# Altium integrated library NSC OtherParts.IntLib: 191 symbols (part 6 of 6)
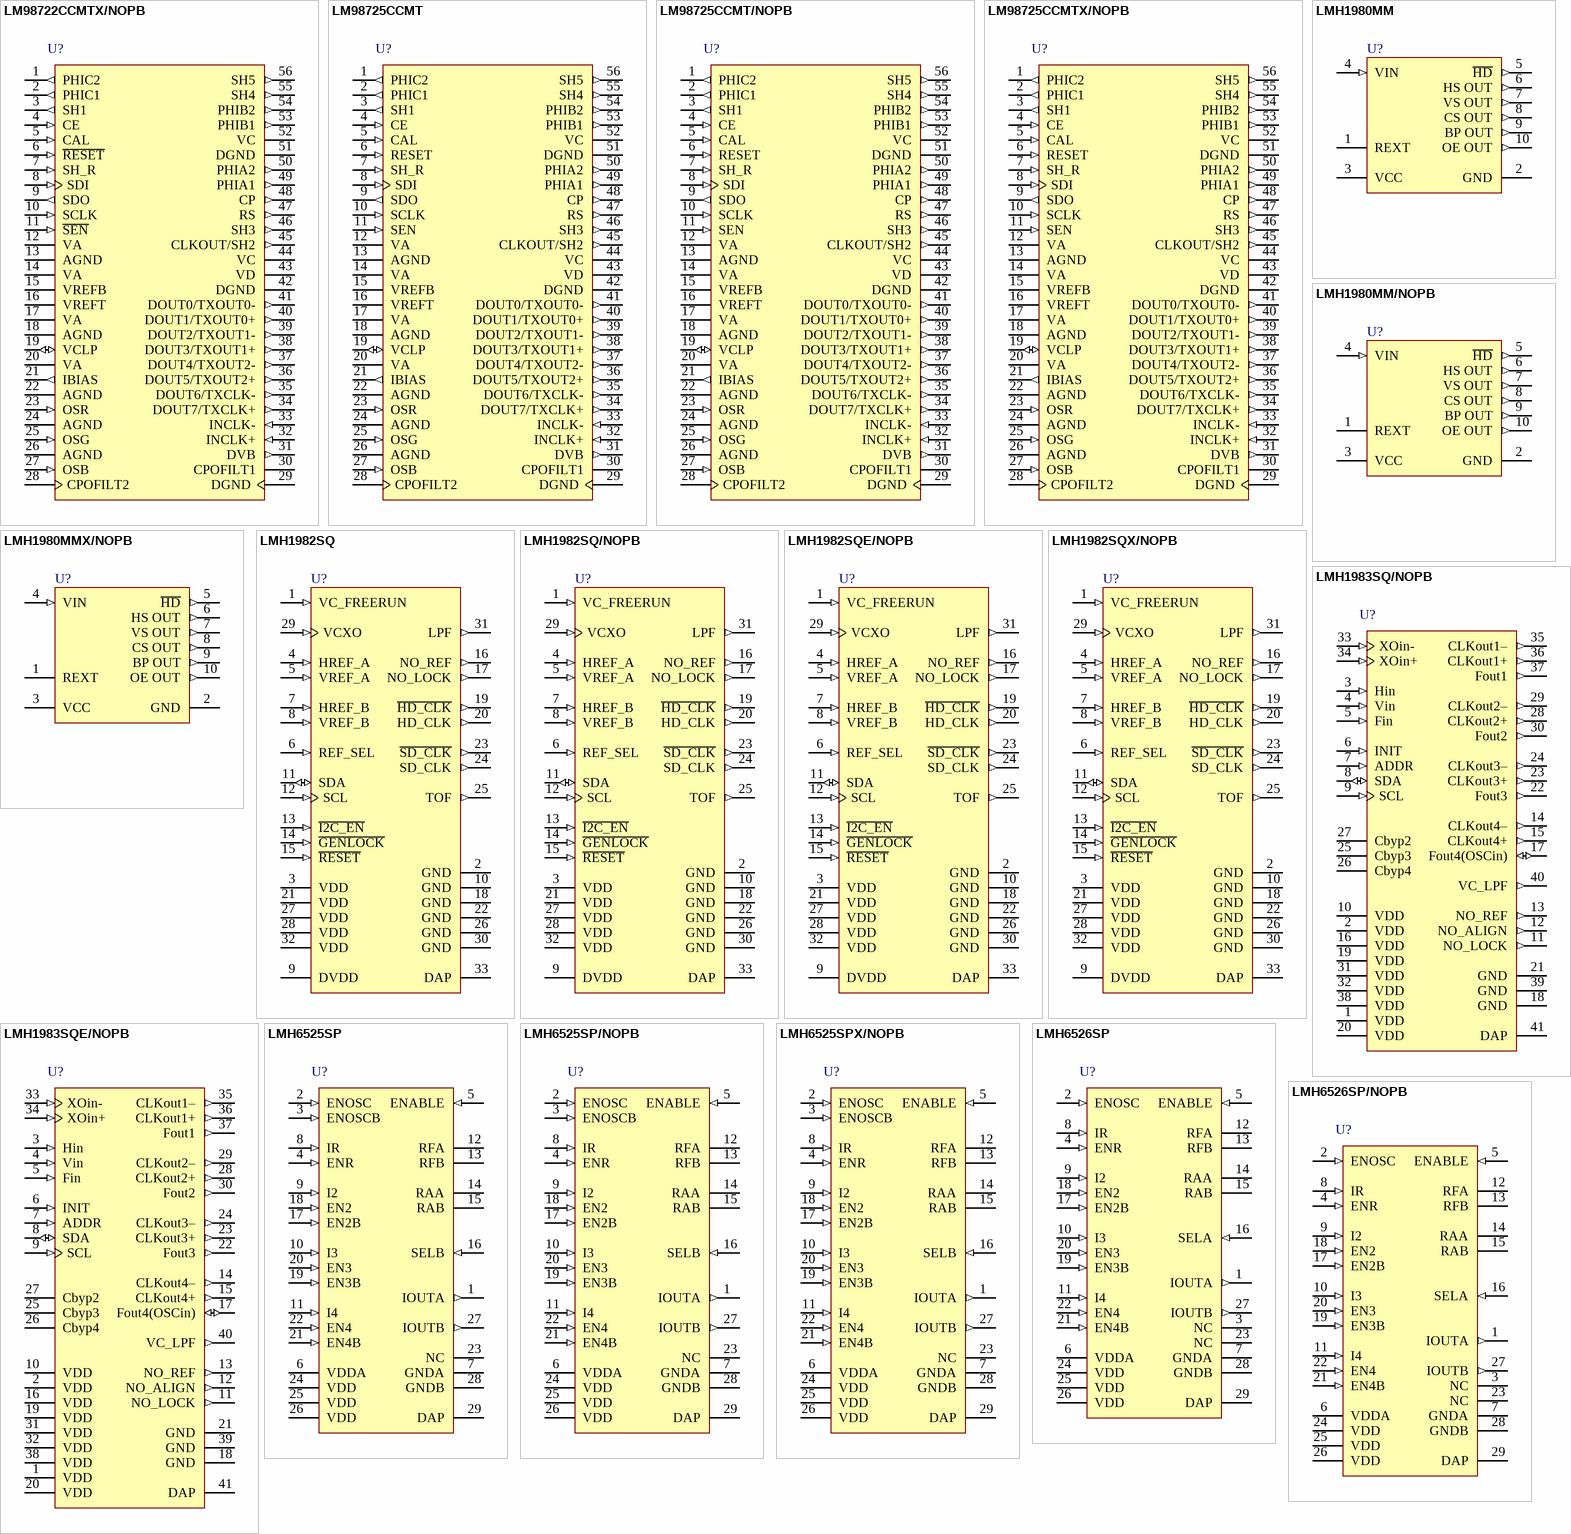
[diagram p15: symbols LM98722CCMTX/NOPB to LMH6526SP/NOPB]

## LMH1980MMX/NOPB
designator U?
Auto-Detecting SD/HD/PC Video Sync Separator, 10-pin Mini SOIC, Pb-Free; PartNumber: LMH1980MMX/NOPB; Manufacturer: National Semiconductor; PackageTopMarking: ZXTT*AL4A; PowerWise: N; CompType: OtherParts; Published: 1-Mar-2010; DatasheetVersion: Jul-2007; PackageVersion: revB, Jul-2003; PackageReference: MUB10A; Publisher: Altium Limited; PackageDescription: Mini-SO, Molded, .118 x .118 x .034in Body, 10 Lead, .0197in Pitch; Supplier 1: Digi-Key; Supplier Part Number 1: LMH1980MMX-ND; RoHS: Y; PinCount: 10; Code_JEDEC: MO-187-BA; ComponentLink1Description: LMH1980 Datasheet; ComponentLink1URL: http://www.national.com/ds/LM/LMH1980.pdf; ComponentLink2Description: LMH1980 Web Page; ComponentLink2URL: http://www.national.com/pf/LM/LMH1980.html; ComponentLink3Description: MUB10A Package Page; ComponentLink3URL: http://www.national.com/packaging/folders/mub10a.html
footprint MUB10A_N (TSSOP, 10-Leads, Body 3x3mm, Pitch 0.5mm, IPC Medium Density)
footprint MUB10A_L (TSSOP, 10-Leads, Body 3x3mm, Pitch 0.5mm, IPC High Density)
footprint MUB10A_M (TSSOP, 10-Leads, Body 3x3mm, Pitch 0.5mm, IPC Low Density)
pins: 1 REXT, 2 GND (power), 3 VCC (power), 4 VIN (in), 5 ~{HD} (out), 6 HS OUT (out), 7 VS OUT (out), 8 CS OUT (out), 9 BP OUT (out), 10 OE OUT (out)

## LMH1982SQ
designator U?
Multi-Rate Video Clock Generator with Genlock, 32-pin LLP; PartNumber: LMH1982SQ; Manufacturer: National Semiconductor; PackageTopMarking: NS*UZXYTT*L1982SQ; PowerWise: N; CompType: OtherParts; Published: 4-Dec-2008; DatasheetVersion: Jul-2008; PackageVersion: revB, Oct-2009; PackageReference: SQA32A; Publisher: Altium Limited; PackageDescription: LLP, Quad, 5 x 5 x 0.8mm, 32 Lead, 0.5mm Pitch, No Pullback 3.1 x 3.1 Exposed Pad; RoHS: Y; Pin Count: 33; ComponentLink1Description: LMH1982 Datasheet; ComponentLink1URL: http://www.national.com/ds/LM/LMH1982.pdf; ComponentLink2Description: LMH1982 Web Page; ComponentLink2URL: http://www.national.com/pf/LM/LMH1982.html; ComponentLink3Description: SQA32A Package Page; ComponentLink3URL: http://www.national.com/packaging/folders/sqa32a.html
footprint SQA32A (QFN, 32-Leads, Body 5x5mm, Pitch 0.5mm, NSC Recommended)
pins: 1 VC_FREERUN (in), 2 GND (power), 3 VDD (power), 4 HREF_A (in), 5 VREF_A (in), 6 REF_SEL (in), 7 HREF_B (in), 8 VREF_B (in), 9 DVDD (power), 10 GND (power), 11 SDA (io), 12 SCL (in), 13 ~{I2C_EN} (in), 14 ~{GENLOCK} (in), 15 ~{RESET} (in), 16 NO_REF (out), 17 NO_LOCK (out), 18 GND (power), 19 ~{HD_CLK} (out), 20 HD_CLK (out), 21 VDD (power), 22 GND (power), 23 ~{SD_CLK} (out), 24 SD_CLK (out), 25 TOF (out), 26 GND (power), 27 VDD (power), 28 VDD (power), 29 VCXO (in), 30 GND (power), 31 LPF (out), 32 VDD (power), 33 DAP (power)

## LMH1982SQ/NOPB
designator U?
Multi-Rate Video Clock Generator with Genlock, 32-pin LLP, Pb-Free; PartNumber: LMH1982SQ/NOPB; Manufacturer: National Semiconductor; PackageTopMarking: NS*UZXYTT*L1982SQ; PowerWise: N; CompType: OtherParts; Published: 1-Mar-2010; DatasheetVersion: Jul-2008; PackageVersion: revB, Oct-2009; PackageReference: SQA32A; Publisher: Altium Limited; PackageDescription: LLP, Quad, 5 x 5 x 0.8mm, 32 Lead, 0.5mm Pitch, No Pullback 3.1 x 3.1 Exposed Pad; Supplier 1: Digi-Key; Supplier Part Number 1: LMH1982SQ-ND; RoHS: Y; PinCount: 32; ComponentLink1Description: LMH1982 Datasheet; ComponentLink1URL: http://www.national.com/ds/LM/LMH1982.pdf; ComponentLink2Description: LMH1982 Web Page; ComponentLink2URL: http://www.national.com/pf/LM/LMH1982.html; ComponentLink3Description: SQA32A Package Page; ComponentLink3URL: http://www.national.com/packaging/folders/sqa32a.html
footprint SQA32A (QFN, 32-Leads, Body 5x5mm, Pitch 0.5mm, NSC Recommended)
pins: 1 VC_FREERUN (in), 2 GND (power), 3 VDD (power), 4 HREF_A (in), 5 VREF_A (in), 6 REF_SEL (in), 7 HREF_B (in), 8 VREF_B (in), 9 DVDD (power), 10 GND (power), 11 SDA (io), 12 SCL (in), 13 ~{I2C_EN} (in), 14 ~{GENLOCK} (in), 15 ~{RESET} (in), 16 NO_REF (out), 17 NO_LOCK (out), 18 GND (power), 19 ~{HD_CLK} (out), 20 HD_CLK (out), 21 VDD (power), 22 GND (power), 23 ~{SD_CLK} (out), 24 SD_CLK (out), 25 TOF (out), 26 GND (power), 27 VDD (power), 28 VDD (power), 29 VCXO (in), 30 GND (power), 31 LPF (out), 32 VDD (power), 33 DAP (power)

## LMH1982SQE/NOPB
designator U?
Multi-Rate Video Clock Generator with Genlock, 32-pin LLP, Pb-Free; PartNumber: LMH1982SQE/NOPB; Manufacturer: National Semiconductor; PackageTopMarking: NS*UZXYTT*L1982SQ; PowerWise: N; CompType: OtherParts; Published: 1-Mar-2010; DatasheetVersion: Jul-2008; PackageVersion: revB, Oct-2009; PackageReference: SQA32A; Publisher: Altium Limited; PackageDescription: LLP, Quad, 5 x 5 x 0.8mm, 32 Lead, 0.5mm Pitch, No Pullback 3.1 x 3.1 Exposed Pad; Supplier 1: Digi-Key; Supplier Part Number 1: LMH1982SQETR-ND; Supplier 2: Digi-Key; Supplier Part Number 2: LMH1982SQECT-ND; Supplier 3: Digi-Key; Supplier Part Number 3: LMH1982SQEDKR-ND; Supplier 4: Farnell; Supplier Part Number 4: 1685407; RoHS: Y; PinCount: 32; ComponentLink1Description: LMH1982 Datasheet; ComponentLink1URL: http://www.national.com/ds/LM/LMH1982.pdf; ComponentLink2Description: LMH1982 Web Page; ComponentLink2URL: http://www.national.com/pf/LM/LMH1982.html; ComponentLink3Description: SQA32A Package Page; ComponentLink3URL: http://www.national.com/packaging/folders/sqa32a.html
footprint SQA32A (QFN, 32-Leads, Body 5x5mm, Pitch 0.5mm, NSC Recommended)
pins: 1 VC_FREERUN (in), 2 GND (power), 3 VDD (power), 4 HREF_A (in), 5 VREF_A (in), 6 REF_SEL (in), 7 HREF_B (in), 8 VREF_B (in), 9 DVDD (power), 10 GND (power), 11 SDA (io), 12 SCL (in), 13 ~{I2C_EN} (in), 14 ~{GENLOCK} (in), 15 ~{RESET} (in), 16 NO_REF (out), 17 NO_LOCK (out), 18 GND (power), 19 ~{HD_CLK} (out), 20 HD_CLK (out), 21 VDD (power), 22 GND (power), 23 ~{SD_CLK} (out), 24 SD_CLK (out), 25 TOF (out), 26 GND (power), 27 VDD (power), 28 VDD (power), 29 VCXO (in), 30 GND (power), 31 LPF (out), 32 VDD (power), 33 DAP (power)

## LMH1982SQX/NOPB
designator U?
Multi-Rate Video Clock Generator with Genlock, 32-pin LLP, Pb-Free; PartNumber: LMH1982SQX/NOPB; Manufacturer: National Semiconductor; PackageTopMarking: NS*UZXYTT*L1982SQ; PowerWise: N; CompType: OtherParts; Published: 1-Mar-2010; DatasheetVersion: Jul-2008; PackageVersion: revB, Oct-2009; PackageReference: SQA32A; Publisher: Altium Limited; PackageDescription: LLP, Quad, 5 x 5 x 0.8mm, 32 Lead, 0.5mm Pitch, No Pullback 3.1 x 3.1 Exposed Pad; Supplier 1: Digi-Key; Supplier Part Number 1: LMH1982SQX-ND; RoHS: Y; PinCount: 32; ComponentLink1Description: LMH1982 Datasheet; ComponentLink1URL: http://www.national.com/ds/LM/LMH1982.pdf; ComponentLink2Description: LMH1982 Web Page; ComponentLink2URL: http://www.national.com/pf/LM/LMH1982.html; ComponentLink3Description: SQA32A Package Page; ComponentLink3URL: http://www.national.com/packaging/folders/sqa32a.html
footprint SQA32A (QFN, 32-Leads, Body 5x5mm, Pitch 0.5mm, NSC Recommended)
pins: 1 VC_FREERUN (in), 2 GND (power), 3 VDD (power), 4 HREF_A (in), 5 VREF_A (in), 6 REF_SEL (in), 7 HREF_B (in), 8 VREF_B (in), 9 DVDD (power), 10 GND (power), 11 SDA (io), 12 SCL (in), 13 ~{I2C_EN} (in), 14 ~{GENLOCK} (in), 15 ~{RESET} (in), 16 NO_REF (out), 17 NO_LOCK (out), 18 GND (power), 19 ~{HD_CLK} (out), 20 HD_CLK (out), 21 VDD (power), 22 GND (power), 23 ~{SD_CLK} (out), 24 SD_CLK (out), 25 TOF (out), 26 GND (power), 27 VDD (power), 28 VDD (power), 29 VCXO (in), 30 GND (power), 31 LPF (out), 32 VDD (power), 33 DAP (power)

## LMH1983SQ/NOPB
designator U?
3G/HD/SD Video Clock Generator with Audio Clock, 40 pin LLP; PartNumber: LMH1983SQ/NOPB; Manufacturer: National Semiconductor; PackageTopMarking: NS*UZXYTTE#*LMH1983; PowerWise: N; CompType: OtherParts; Published: 16-Nov-2010; DatasheetVersion: Jul-2010; PackageVersion: revB, Mar-2004; PackageReference: SQA40A; Publisher: Altium Limited; PackageDescription: LLP, Plastic, Quad, 6 x 6 x 0.8mm Body, 40 Lead, 0.5mm Pitch, No Pullback; Supplier 1: Digi-Key; Supplier Part Number 1: LMH1983SQ/NOPB-ND; RoHS: Y; PinCount: 40; ComponentLink1Description: LMH1983 Datasheet; ComponentLink1URL: http://www.national.com/ds/LM/LMH1983.pdf; ComponentLink2Description: LMH1983 Web Page; ComponentLink2URL: http://www.national.com/pf/LM/LMH1983.html; ComponentLink3Description: SQA40A Package Page; ComponentLink3URL: http://www.national.com/packaging/folders/sqa40a.html
footprint SQA40A (QFN, 40-Leads, Body 6x6mm, Pitch 0.5mm, NSC Recommended)
pins: 1 VDD (power), 2 VDD (power), 3 Hin (in), 4 Vin (in), 5 Fin (in), 6 INIT (in), 7 ADDR (in), 8 SDA (io), 9 SCL (in), 10 VDD (power), 11 NO_LOCK (out), 12 NO_ALIGN (out), 13 NO_REF (out), 14 CLKout4– (out), 15 CLKout4+ (out), 16 VDD (power), 17 Fout4(OSCin) (io), 18 GND (power), 19 VDD (power), 20 VDD (power), 21 GND (power), 22 Fout3 (out), 23 CLKout3+ (out), 24 CLKout3– (out), 25 Cbyp3, 26 Cbyp4, 27 Cbyp2, 28 CLKout2+ (out), 29 CLKout2– (out), 30 Fout2 (out), 31 VDD (power), 32 VDD (power), 33 XOin- (in), 34 XOin+ (in), 35 CLKout1– (out), 36 CLKout1+ (out), 37 Fout1 (out), 38 VDD (power), 39 GND (power), 40 VC_LPF (out), 41 DAP (power)

## LMH1983SQE/NOPB
designator U?
3G/HD/SD Video Clock Generator with Audio Clock, 40 pin LLP; PartNumber: LMH1983SQE/NOPB; Manufacturer: National Semiconductor; PackageTopMarking: NS*UZXYTTE#*LMH1983; PowerWise: N; CompType: OtherParts; Published: 16-Nov-2010; DatasheetVersion: Jul-2010; PackageVersion: revB, Mar-2004; PackageReference: SQA40A; Publisher: Altium Limited; PackageDescription: LLP, Plastic, Quad, 6 x 6 x 0.8mm Body, 40 Lead, 0.5mm Pitch, No Pullback; Supplier 1: Digi-Key; Supplier Part Number 1: LMH1983SQETR-ND; Supplier 2: Digi-Key; Supplier Part Number 2: LMH1983SQECT-ND; Supplier 3: Digi-Key; Supplier Part Number 3: LMH1983SQEDKR-ND; RoHS: Y; PinCount: 40; ComponentLink1Description: LMH1983 Datasheet; ComponentLink1URL: http://www.national.com/ds/LM/LMH1983.pdf; ComponentLink2Description: LMH1983 Web Page; ComponentLink2URL: http://www.national.com/pf/LM/LMH1983.html; ComponentLink3Description: SQA40A Package Page; ComponentLink3URL: http://www.national.com/packaging/folders/sqa40a.html
footprint SQA40A (QFN, 40-Leads, Body 6x6mm, Pitch 0.5mm, NSC Recommended)
pins: 1 VDD (power), 2 VDD (power), 3 Hin (in), 4 Vin (in), 5 Fin (in), 6 INIT (in), 7 ADDR (in), 8 SDA (io), 9 SCL (in), 10 VDD (power), 11 NO_LOCK (out), 12 NO_ALIGN (out), 13 NO_REF (out), 14 CLKout4– (out), 15 CLKout4+ (out), 16 VDD (power), 17 Fout4(OSCin) (io), 18 GND (power), 19 VDD (power), 20 VDD (power), 21 GND (power), 22 Fout3 (out), 23 CLKout3+ (out), 24 CLKout3– (out), 25 Cbyp3, 26 Cbyp4, 27 Cbyp2, 28 CLKout2+ (out), 29 CLKout2– (out), 30 Fout2 (out), 31 VDD (power), 32 VDD (power), 33 XOin- (in), 34 XOin+ (in), 35 CLKout1– (out), 36 CLKout1+ (out), 37 Fout1 (out), 38 VDD (power), 39 GND (power), 40 VC_LPF (out), 41 DAP (power)

## LMH6525SP
designator U?
Four-Channel Laser Diode Driver with Dual Output, 29-pin LLP; PartNumber: LMH6525SP; Manufacturer: National Semiconductor; PackageTopMarking: THHD*XTT; PowerWise: N; CompType: OtherParts; Published: 4-Dec-2008; DatasheetVersion: Jun-2005; PackageVersion: revA, Aug-2003; PackageReference: SPA28A; Publisher: Altium Limited; PackageDescription: LLP, Plastic, Quad, 5 x 5 x 0.6mm Body, 28 Lead, 0.5mm Pitch, No Pullback; Supplier 1: Farnell; Supplier Part Number 1: 1312806; RoHS: Y; PinCount: 28; Code_JEDEC: MO-220-WHHD-3; ComponentLink1Description: LMH6525 Datasheet; ComponentLink1URL: http://www.national.com/ds/LM/LMH6525.pdf; ComponentLink2Description: LMH6525 Web Page; ComponentLink2URL: http://www.national.com/pf/LM/LMH6525.html; ComponentLink3Description: SPA28A Package Page; ComponentLink3URL: http://www.national.com/packaging/folders/spa28a.html
footprint SPA28A (QFN, 28-Leads, Body 5x5mm, Pitch 0.5mm, NSC Recommended)
pins: 1 IOUTA (out), 2 ENOSC (in), 3 ENOSCB (in), 4 ENR (in), 5 ENABLE (in), 6 VDDA (power), 7 GNDA (power), 8 IR (in), 9 I2 (in), 10 I3 (in), 11 I4 (in), 12 RFA, 13 RFB, 14 RAA, 15 RAB, 16 SELB (in), 17 EN2B (in), 18 EN2 (in), 19 EN3B (in), 20 EN3 (in), 21 EN4B (in), 22 EN4 (in), 23 NC, 24 VDD (power), 25 VDD (power), 26 VDD (power), 27 IOUTB (out), 28 GNDB (power), 29 DAP (power)

## LMH6525SP/NOPB
designator U?
Four-Channel Laser Diode Driver with Dual Output, 28-pin LLP, Pb-Free; PartNumber: LMH6525SP/NOPB; Manufacturer: National Semiconductor; PackageTopMarking: NS*UZXYTT*L6525SP; PowerWise: N; CompType: OtherParts; Published: 1-Mar-2010; DatasheetVersion: Jun-2005; PackageVersion: revA, Aug-2003; PackageReference: SPA28A; Publisher: Altium Limited; PackageDescription: LLP, Plastic, Quad, 5 x 5 x 0.6mm Body, 28 Lead, 0.5mm Pitch, No Pullback; Supplier 1: Digi-Key; Supplier Part Number 1: LMH6525SPTR-ND; Supplier 2: Digi-Key; Supplier Part Number 2: LMH6525SPCT-ND; Supplier 3: Digi-Key; Supplier Part Number 3: LMH6525SPDKR-ND; RoHS: Y; PinCount: 28; Code_JEDEC: MO-220-WHHD-3; ComponentLink1Description: LMH6525 Datasheet; ComponentLink1URL: http://www.national.com/ds/LM/LMH6525.pdf; ComponentLink2Description: LMH6525 Web Page; ComponentLink2URL: http://www.national.com/pf/LM/LMH6525.html; ComponentLink3Description: SPA28A Package Page; ComponentLink3URL: http://www.national.com/packaging/folders/spa28a.html
footprint SPA28A (QFN, 28-Leads, Body 5x5mm, Pitch 0.5mm, NSC Recommended)
pins: 1 IOUTA (out), 2 ENOSC (in), 3 ENOSCB (in), 4 ENR (in), 5 ENABLE (in), 6 VDDA (power), 7 GNDA (power), 8 IR (in), 9 I2 (in), 10 I3 (in), 11 I4 (in), 12 RFA, 13 RFB, 14 RAA, 15 RAB, 16 SELB (in), 17 EN2B (in), 18 EN2 (in), 19 EN3B (in), 20 EN3 (in), 21 EN4B (in), 22 EN4 (in), 23 NC, 24 VDD (power), 25 VDD (power), 26 VDD (power), 27 IOUTB (out), 28 GNDB (power), 29 DAP (power)

## LMH6525SPX/NOPB
designator U?
Four-Channel Laser Diode Driver with Dual Output, 28-pin LLP, Pb-Free; PartNumber: LMH6525SPX/NOPB; Manufacturer: National Semiconductor; PackageTopMarking: NS*UZXYTT*L6525SP; PowerWise: N; CompType: OtherParts; Published: 1-Mar-2010; DatasheetVersion: Jun-2005; PackageVersion: revA, Aug-2003; PackageReference: SPA28A; Publisher: Altium Limited; PackageDescription: LLP, Plastic, Quad, 5 x 5 x 0.6mm Body, 28 Lead, 0.5mm Pitch, No Pullback; Supplier 1: Digi-Key; Supplier Part Number 1: LMH6525SPX-ND; RoHS: Y; PinCount: 28; Code_JEDEC: MO-220-WHHD-3; ComponentLink1Description: LMH6525 Datasheet; ComponentLink1URL: http://www.national.com/ds/LM/LMH6525.pdf; ComponentLink2Description: LMH6525 Web Page; ComponentLink2URL: http://www.national.com/pf/LM/LMH6525.html; ComponentLink3Description: SPA28A Package Page; ComponentLink3URL: http://www.national.com/packaging/folders/spa28a.html
footprint SPA28A (QFN, 28-Leads, Body 5x5mm, Pitch 0.5mm, NSC Recommended)
pins: 1 IOUTA (out), 2 ENOSC (in), 3 ENOSCB (in), 4 ENR (in), 5 ENABLE (in), 6 VDDA (power), 7 GNDA (power), 8 IR (in), 9 I2 (in), 10 I3 (in), 11 I4 (in), 12 RFA, 13 RFB, 14 RAA, 15 RAB, 16 SELB (in), 17 EN2B (in), 18 EN2 (in), 19 EN3B (in), 20 EN3 (in), 21 EN4B (in), 22 EN4 (in), 23 NC, 24 VDD (power), 25 VDD (power), 26 VDD (power), 27 IOUTB (out), 28 GNDB (power), 29 DAP (power)

## LMH6526SP
designator U?
Four-Channel Laser Diode Driver with Dual Output, 29-pin LLP; PartNumber: LMH6526SP; Manufacturer: National Semiconductor; PackageTopMarking: THHD*XTT; PowerWise: N; CompType: OtherParts; Published: 4-Dec-2008; DatasheetVersion: Jun-2005; PackageVersion: revA, Aug-2003; PackageReference: SPA28A; Publisher: Altium Limited; PackageDescription: LLP, Plastic, Quad, 5 x 5 x 0.6mm Body, 28 Lead, 0.5mm Pitch, No Pullback; Supplier 1: Farnell; Supplier Part Number 1: 1312808; RoHS: Y; PinCount: 28; Code_JEDEC: MO-220-WHHD-3; ComponentLink1Description: LMH6526 Datasheet; ComponentLink1URL: http://www.national.com/ds/LM/LMH6526.pdf; ComponentLink2Description: LMH6526 Web Page; ComponentLink2URL: http://www.national.com/pf/LM/LMH6526.html; ComponentLink3Description: SPA28A Package Page; ComponentLink3URL: http://www.national.com/packaging/folders/spa28a.html
footprint SPA28A (QFN, 28-Leads, Body 5x5mm, Pitch 0.5mm, NSC Recommended)
pins: 1 IOUTA (out), 2 ENOSC (in), 3 NC, 4 ENR (in), 5 ENABLE (in), 6 VDDA (power), 7 GNDA (power), 8 IR (in), 9 I2 (in), 10 I3 (in), 11 I4 (in), 12 RFA, 13 RFB, 14 RAA, 15 RAB, 16 SELA (in), 17 EN2B (in), 18 EN2 (in), 19 EN3B (in), 20 EN3 (in), 21 EN4B (in), 22 EN4 (in), 23 NC, 24 VDD (power), 25 VDD (power), 26 VDD (power), 27 IOUTB (out), 28 GNDB (power), 29 DAP (power)

## LMH6526SP/NOPB
designator U?
Four-Channel Laser Diode Driver with Dual Output, 28-pin LLP, Pb-Free; PartNumber: LMH6526SP/NOPB; Manufacturer: National Semiconductor; PackageTopMarking: NS*UZXYTT*L6526SP; PowerWise: N; CompType: OtherParts; Published: 1-Mar-2010; DatasheetVersion: Jun-2005; PackageVersion: revA, Aug-2003; PackageReference: SPA28A; Publisher: Altium Limited; PackageDescription: LLP, Plastic, Quad, 5 x 5 x 0.6mm Body, 28 Lead, 0.5mm Pitch, No Pullback; Supplier 1: Digi-Key; Supplier Part Number 1: LMH6526SPTR-ND; Supplier 2: Digi-Key; Supplier Part Number 2: LMH6526SPCT-ND; Supplier 3: Digi-Key; Supplier Part Number 3: LMH6526SPDKR-ND; RoHS: Y; PinCount: 28; Code_JEDEC: MO-220-WHHD-3; ComponentLink1Description: LMH6526 Datasheet; ComponentLink1URL: http://www.national.com/ds/LM/LMH6526.pdf; ComponentLink2Description: LMH6526 Web Page; ComponentLink2URL: http://www.national.com/pf/LM/LMH6526.html; ComponentLink3Description: SPA28A Package Page; ComponentLink3URL: http://www.national.com/packaging/folders/spa28a.html
footprint SPA28A (QFN, 28-Leads, Body 5x5mm, Pitch 0.5mm, NSC Recommended)
pins: 1 IOUTA (out), 2 ENOSC (in), 3 NC, 4 ENR (in), 5 ENABLE (in), 6 VDDA (power), 7 GNDA (power), 8 IR (in), 9 I2 (in), 10 I3 (in), 11 I4 (in), 12 RFA, 13 RFB, 14 RAA, 15 RAB, 16 SELA (in), 17 EN2B (in), 18 EN2 (in), 19 EN3B (in), 20 EN3 (in), 21 EN4B (in), 22 EN4 (in), 23 NC, 24 VDD (power), 25 VDD (power), 26 VDD (power), 27 IOUTB (out), 28 GNDB (power), 29 DAP (power)

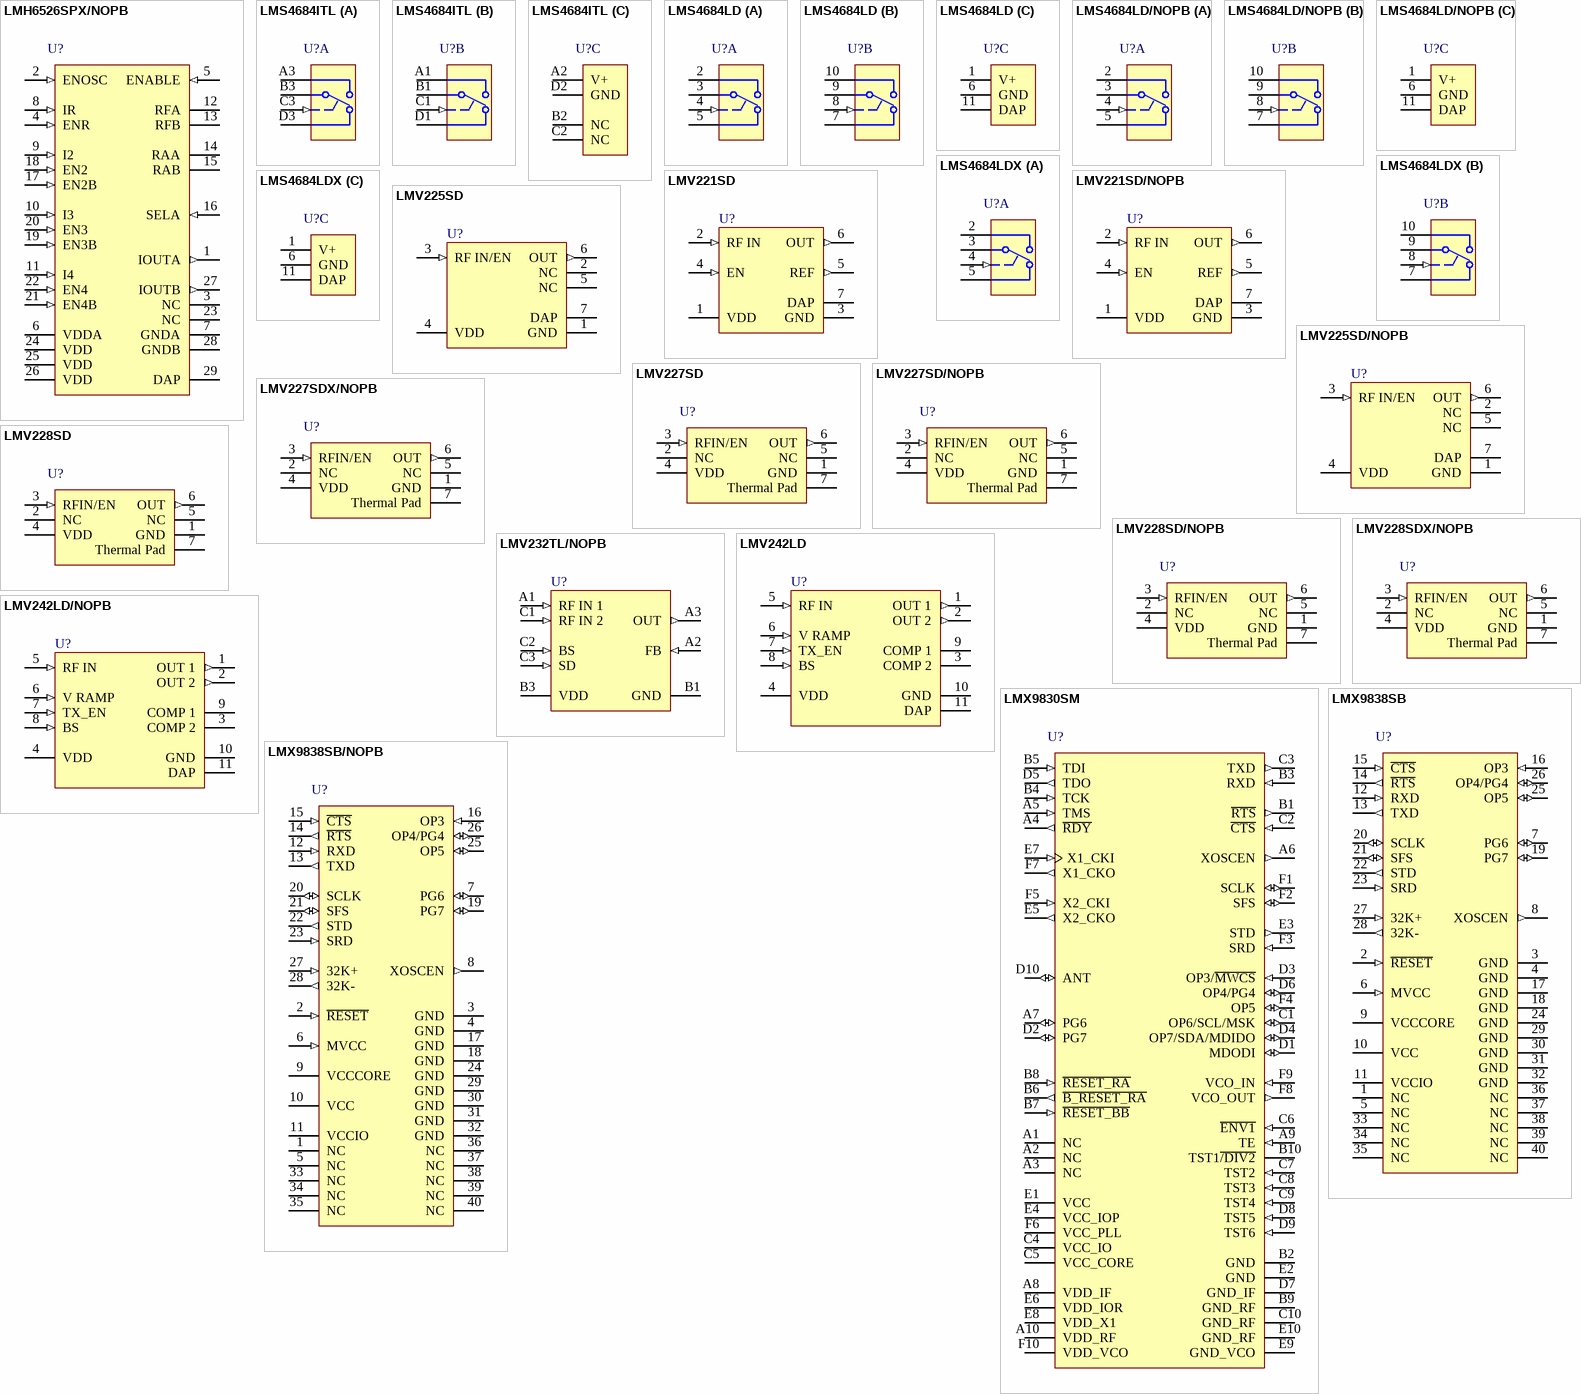
[diagram p10: symbols LMH6526SPX/NOPB to LMX9838SB/NOPB]

## LMH6526SPX/NOPB
designator U?
Four-Channel Laser Diode Driver with Dual Output, 28-pin LLP, Pb-Free; PartNumber: LMH6526SPX/NOPB; Manufacturer: National Semiconductor; PackageTopMarking: NS*UZXYTT*L6526SP; PowerWise: N; CompType: OtherParts; Published: 1-Mar-2010; DatasheetVersion: Jun-2005; PackageVersion: revA, Aug-2003; PackageReference: SPA28A; Publisher: Altium Limited; PackageDescription: LLP, Plastic, Quad, 5 x 5 x 0.6mm Body, 28 Lead, 0.5mm Pitch, No Pullback; Supplier 1: Digi-Key; Supplier Part Number 1: LMH6526SPX-ND; RoHS: Y; PinCount: 28; Code_JEDEC: MO-220-WHHD-3; ComponentLink1Description: LMH6526 Datasheet; ComponentLink1URL: http://www.national.com/ds/LM/LMH6526.pdf; ComponentLink2Description: LMH6526 Web Page; ComponentLink2URL: http://www.national.com/pf/LM/LMH6526.html; ComponentLink3Description: SPA28A Package Page; ComponentLink3URL: http://www.national.com/packaging/folders/spa28a.html
footprint SPA28A (QFN, 28-Leads, Body 5x5mm, Pitch 0.5mm, NSC Recommended)
pins: 1 IOUTA (out), 2 ENOSC (in), 3 NC, 4 ENR (in), 5 ENABLE (in), 6 VDDA (power), 7 GNDA (power), 8 IR (in), 9 I2 (in), 10 I3 (in), 11 I4 (in), 12 RFA, 13 RFB, 14 RAA, 15 RAB, 16 SELA (in), 17 EN2B (in), 18 EN2 (in), 19 EN3B (in), 20 EN3 (in), 21 EN4B (in), 22 EN4 (in), 23 NC, 24 VDD (power), 25 VDD (power), 26 VDD (power), 27 IOUTB (out), 28 GNDB (power), 29 DAP (power)

## LMS4684ITL
designator U?
0.5ohm Low-Voltage, Dual SPDT Analog Switch, 12-pin Micro SMD; PartNumber: LMS4684ITL; Manufacturer: National Semiconductor; PackageTopMarking: XYTT*I F09A; PowerWise: N; CompType: OtherParts; Published: 29-May-2009; DatasheetVersion: Sep-2005; PackageVersion: revC, Jan-2004; PackageReference: TLA12DPA; Publisher: Altium Limited; PackageDescription: Thin Micro SMD, 12 Bump (Large), Area Array, 0.5mm Pitch; Supplier 1: Farnell; Supplier Part Number 1: 8181233; RoHS: Y; PinCount: 12; Code_JEDEC: MO-211-DE; ComponentLink1Description: LMS4684 Datasheet; ComponentLink1URL: http://www.national.com/ds/LM/LMS4684.pdf; ComponentLink2Description: LMS4684 Web Page; ComponentLink2URL: http://www.national.com/pf/LM/LMS4684.html; ComponentLink3Description: TLA12DPA Package Page; ComponentLink3URL: http://www.national.com/packaging/folders/tla12dpa.html
footprint TLA12DPA (Micro SMD, 12-Leads, Body 2.33x1.59mm, Pitch 0.5mm, NSC Recommended)
part A pins: A3 NO1, B3 COM1, C3 IN1 (in), D3 NC1
part B pins: A1 NO2, B1 COM2, C1 IN2 (in), D1 NC2
part C pins: A2 V+, B2 NC (power), C2 NC (power), D2 GND (power)

## LMS4684LD
designator U?
0.5ohm Low-Voltage, Dual SPDT Analog Switch, 10-pin LLP; PartNumber: LMS4684LD; Manufacturer: National Semiconductor; PackageTopMarking: ZXYTT*L4684; PowerWise: N; CompType: OtherParts; Published: 29-May-2009; DatasheetVersion: Sep-2005; PackageVersion: revB, Jun-2003; PackageReference: LDA10B; Publisher: Altium Limited; PackageDescription: LLP, Plastic, Dual, 3 x 4 x 0.75mm Body, 10 Lead, 0.5mm Pitch; Supplier 1: Farnell; Supplier Part Number 1: 8181241; RoHS: N; PinCount: 10; Code_JEDEC: MO-229-WEGD; ComponentLink1Description: LMS4684 Datasheet; ComponentLink1URL: http://www.national.com/ds/LM/LMS4684.pdf; ComponentLink2Description: LMS4684 Web Page; ComponentLink2URL: http://www.national.com/pf/LM/LMS4684.html; ComponentLink3Description: LDA10B Package Page; ComponentLink3URL: http://www.national.com/packaging/folders/lda10b.html
footprint LDA10B (PSON, 10-Leads, Body 3x4mm, Pitch 0.5mm, NSC Recommended)
part A pins: 2 NO1, 3 COM1, 4 IN1 (in), 5 NC1
part B pins: 7 NC2, 8 IN2 (in), 9 COM2, 10 NO2
part C pins: 1 V+, 6 GND (power), 11 DAP (power)

## LMS4684LD/NOPB
designator U?
0.5ohm Low-Voltage, Dual SPDT Analog Switch, 10-pin LLP, Pb-Free; PartNumber: LMS4684LD/NOPB; Manufacturer: National Semiconductor; PackageTopMarking: ZXYTT*L4684; PowerWise: N; CompType: OtherParts; Published: 1-Mar-2010; DatasheetVersion: Sep-2005; PackageVersion: revB, Jun-2003; PackageReference: LDA10B; Publisher: Altium Limited; PackageDescription: LLP, Plastic, Dual, 3 x 4 x 0.75mm Body, 10 Lead, 0.5mm Pitch; Supplier 1: Digi-Key; Supplier Part Number 1: LMS4684LD-ND; RoHS: Y; PinCount: 10; Code_JEDEC: MO-229-WEGD; ComponentLink1Description: LMS4684 Datasheet; ComponentLink1URL: http://www.national.com/ds/LM/LMS4684.pdf; ComponentLink2Description: LMS4684 Web Page; ComponentLink2URL: http://www.national.com/pf/LM/LMS4684.html; ComponentLink3Description: LDA10B Package Page; ComponentLink3URL: http://www.national.com/packaging/folders/lda10b.html
footprint LDA10B (PSON, 10-Leads, Body 3x4mm, Pitch 0.5mm, NSC Recommended)
part A pins: 2 NO1, 3 COM1, 4 IN1 (in), 5 NC1
part B pins: 7 NC2, 8 IN2 (in), 9 COM2, 10 NO2
part C pins: 1 V+, 6 GND (power), 11 DAP (power)

## LMS4684LDX
designator U?
0.5ohm Low-Voltage, Dual SPDT Analog Switch, 10-pin LLP; PartNumber: LMS4684LDX; Manufacturer: National Semiconductor; PackageTopMarking: ZXYTT*L4684; PowerWise: N; CompType: OtherParts; Published: 1-Mar-2010; DatasheetVersion: Sep-2005; PackageVersion: revB, Jun-2003; PackageReference: LDA10B; Publisher: Altium Limited; PackageDescription: LLP, Plastic, Dual, 3 x 4 x 0.75mm Body, 10 Lead, 0.5mm Pitch; RoHS: N; PinCount: 10; Code_JEDEC: MO-229-WEGD; ComponentLink1Description: LMS4684 Datasheet; ComponentLink1URL: http://www.national.com/ds/LM/LMS4684.pdf; ComponentLink2Description: LMS4684 Web Page; ComponentLink2URL: http://www.national.com/pf/LM/LMS4684.html; ComponentLink3Description: LDA10B Package Page; ComponentLink3URL: http://www.national.com/packaging/folders/lda10b.html
footprint LDA10B (PSON, 10-Leads, Body 3x4mm, Pitch 0.5mm, NSC Recommended)
part A pins: 2 NO1, 3 COM1, 4 IN1 (in), 5 NC1
part B pins: 7 NC2, 8 IN2 (in), 9 COM2, 10 NO2
part C pins: 1 V+, 6 GND (power), 11 DAP (power)

## LMV221SD
designator U?
50 MHz to 3.5 GHz 40 dB Logarithmic Power Detector for CDMA and WCDMA, 6-pin LLP; PartNumber: LMV221SD; Manufacturer: National Semiconductor; PackageTopMarking: XTT*A96; PowerWise: Y; CompType: OtherParts; Published: 4-Dec-2008; DatasheetVersion: Mar-2008; PackageVersion: revA, Nov-2003; PackageReference: SDB06A; Publisher: Altium Limited; PackageDescription: LLP, Plastic, Dual, 2.2 x 2.5 x 0.8mm Body, 6 Lead, 0.65mm Pitch, No Pullback; Supplier 1: Farnell; Supplier Part Number 1: 1320978; RoHS: Y; PinCount: 7; ComponentLink1Description: LMV221 Datasheet; ComponentLink1URL: http://www.national.com/ds/LM/LMV221.pdf; ComponentLink2Description: LMV221 Web Page; ComponentLink2URL: http://www.national.com/pf/LM/LMV221.html; ComponentLink3Description: SDB06A package page; ComponentLink3URL: http://www.national.com/packaging/folders/sdb06a.html
footprint SDB06A (SON, 6-Leads, Body 2.2x2.5mm, Pitch 0.65mm, NSC Recommended (SC-70 Land))
pins: 1 VDD (power), 2 RF IN (in), 3 GND (power), 4 EN (in), 5 REF (out), 6 OUT (out), 7 DAP (power)

## LMV221SD/NOPB
designator U?
50 MHz to 3.5 GHz 40 dB Logarithmic Power Detector for CDMA and WCDMA, 6-pin LLP, Pb-Free; PartNumber: LMV221SD/NOPB; Manufacturer: National Semiconductor; PackageTopMarking: XTT*A96; PowerWise: Y; CompType: OtherParts; Published: 1-Mar-2010; DatasheetVersion: Mar-2008; PackageVersion: revA, Nov-2003; PackageReference: SDB06A; Publisher: Altium Limited; PackageDescription: LLP, Plastic, Dual, 2.2 x 2.5 x 0.8mm Body, 6 Lead, 0.65mm Pitch, No Pullback; Supplier 1: Digi-Key; Supplier Part Number 1: LMV221SDTR-ND; Supplier 2: Digi-Key; Supplier Part Number 2: LMV221SDCT-ND; Supplier 3: Digi-Key; Supplier Part Number 3: LMV221SDDKR-ND; Supplier 4: Farnell; Supplier Part Number 4: 1693913; RoHS: Y; PinCount: 6; ComponentLink1Description: LMV221 Datasheet; ComponentLink1URL: http://www.national.com/ds/LM/LMV221.pdf; ComponentLink2Description: LMV221 Web Page; ComponentLink2URL: http://www.national.com/pf/LM/LMV221.html; ComponentLink3Description: SDB06A Package Page; ComponentLink3URL: http://www.national.com/packaging/folders/sdb06a.html
footprint SDB06A (SON, 6-Leads, Body 2.2x2.5mm, Pitch 0.65mm, NSC Recommended (SC-70 Land))
pins: 1 VDD (power), 2 RF IN (in), 3 GND (power), 4 EN (in), 5 REF (out), 6 OUT (out), 7 DAP (power)

## LMV225SD
designator U?
RF Power Detector for CDMA and WCDMA, 6-pin LLP; PartNumber: LMV225SD; Manufacturer: National Semiconductor; PackageTopMarking: XTT*A90; PowerWise: Y; CompType: OtherParts; Published: 4-Dec-2008; DatasheetVersion: Oct-2006; PackageVersion: revA, Nov-2003; PackageReference: SDB06A; Publisher: Altium Limited; PackageDescription: LLP, Plastic, Dual, 2.2 x 2.5 x 0.8mm Body, 6 Lead, 0.65mm Pitch, No Pullback; RoHS: N; PinCount: 6; ComponentLink1Description: LMV225 Datasheet; ComponentLink1URL: http://www.national.com/ds/LM/LMV225.pdf; ComponentLink2Description: LMV225 Web Page; ComponentLink2URL: http://www.national.com/pf/LM/LMV225.html; ComponentLink3Description: SDB06A Package Page; ComponentLink3URL: http://www.national.com/packaging/folders/sdb06a.html
footprint SDB06A (SON, 6-Leads, Body 2.2x2.5mm, Pitch 0.65mm, NSC Recommended (SC-70 Land))
pins: 1 GND (power), 2 NC, 3 RF IN/EN (in), 4 VDD (power), 5 NC, 6 OUT (out), 7 DAP (power)

## LMV225SD/NOPB
designator U?
RF Power Detector for CDMA and WCDMA, 6-pin LLP, Pb-Free; PartNumber: LMV225SD/NOPB; Manufacturer: National Semiconductor; PackageTopMarking: XTT*A90; PowerWise: Y; CompType: OtherParts; Published: 1-Mar-2010; DatasheetVersion: Oct-2006; PackageVersion: revA, Nov-2003; PackageReference: SDB06A; Publisher: Altium Limited; PackageDescription: LLP, Plastic, Dual, 2.2 x 2.5 x 0.8mm Body, 6 Lead, 0.65mm Pitch, No Pullback; Supplier 1: Digi-Key; Supplier Part Number 1: LMV225SDTR-ND; Supplier 2: Digi-Key; Supplier Part Number 2: LMV225SDCT-ND; Supplier 3: Digi-Key; Supplier Part Number 3: LMV225SDDKR-ND; RoHS: Y; PinCount: 6; ComponentLink1Description: LMV225 Datasheet; ComponentLink1URL: http://www.national.com/ds/LM/LMV225.pdf; ComponentLink2Description: LMV225 Web Page; ComponentLink2URL: http://www.national.com/pf/LM/LMV225.html; ComponentLink3Description: SDB06A Package Page; ComponentLink3URL: http://www.national.com/packaging/folders/sdb06a.html
footprint SDB06A (SON, 6-Leads, Body 2.2x2.5mm, Pitch 0.65mm, NSC Recommended (SC-70 Land))
pins: 1 GND (power), 2 NC, 3 RF IN/EN (in), 4 VDD (power), 5 NC, 6 OUT (out), 7 DAP (power)

## LMV227SD
designator U?
Production RF Tested, RF Power Detector for CDMA and WCDMA, 6-pin LLP; PartNumber: LMV227SD; Manufacturer: National Semiconductor; PackageTopMarking: THHD*XTT; PowerWise: N; CompType: OtherParts; Published: 4-Dec-2008; DatasheetVersion: Jul-2006; PackageVersion: revA, Nov-2003; PackageReference: SDB06A; Publisher: Altium Limited; PackageDescription: LLP, Plastic, Dual, 2.2 x 2.5 x 0.8mm Body, 6 Lead, 0.65mm Pitch, No Pullback; RoHS: Y; PinCount: 6; ComponentLink1Description: LMV227 Datasheet; ComponentLink1URL: http://www.national.com/ds/LM/LMV227.pdf; ComponentLink2Description: LMV227 Web Page; ComponentLink2URL: http://www.national.com/pf/LM/LMV227.html; ComponentLink3Description: SDB06A Package Page; ComponentLink3URL: http://www.national.com/packaging/folders/sdb06a.html
footprint SDB06A (SON, 6-Leads, Body 2.2x2.5mm, Pitch 0.65mm, NSC Recommended (SC-70 Land))
pins: 1 GND (power), 2 NC, 3 RFIN/EN (in), 4 VDD (power), 5 NC, 6 OUT (out), 7 Thermal Pad (power)

## LMV227SD/NOPB
designator U?
Production RF Tested, RF Power Detector for CDMA and WCDMA, 6-pin LLP, Pb-Free; PartNumber: LMV227SD/NOPB; Manufacturer: National Semiconductor; PackageTopMarking: XTT*A88; PowerWise: N; CompType: OtherParts; Published: 1-Mar-2010; DatasheetVersion: Jul-2006; PackageVersion: revA, Nov-2003; PackageReference: SDB06A; Publisher: Altium Limited; PackageDescription: LLP, Plastic, Dual, 2.2 x 2.5 x 0.8mm Body, 6 Lead, 0.65mm Pitch, No Pullback; Supplier 1: Digi-Key; Supplier Part Number 1: LMV227SDTR-ND; Supplier 2: Digi-Key; Supplier Part Number 2: LMV227SDCT-ND; Supplier 3: Digi-Key; Supplier Part Number 3: LMV227SDDKR-ND; RoHS: Y; PinCount: 6; ComponentLink1Description: LMV227 Datasheet; ComponentLink1URL: http://www.national.com/ds/LM/LMV227.pdf; ComponentLink2Description: LMV227 Web Page; ComponentLink2URL: http://www.national.com/pf/LM/LMV227.html; ComponentLink3Description: SDB06A Package Page; ComponentLink3URL: http://www.national.com/packaging/folders/sdb06a.html
footprint SDB06A (SON, 6-Leads, Body 2.2x2.5mm, Pitch 0.65mm, NSC Recommended (SC-70 Land))
pins: 1 GND (power), 2 NC, 3 RFIN/EN (in), 4 VDD (power), 5 NC, 6 OUT (out), 7 Thermal Pad (power)

## LMV227SDX/NOPB
designator U?
Production RF Tested, RF Power Detector for CDMA and WCDMA, 6-pin LLP, Pb-Free; PartNumber: LMV227SDX/NOPB; Manufacturer: National Semiconductor; PackageTopMarking: XTT*A88; PowerWise: N; CompType: OtherParts; Published: 1-Mar-2010; DatasheetVersion: Jul-2006; PackageVersion: revA, Nov-2003; PackageReference: SDB06A; Publisher: Altium Limited; PackageDescription: LLP, Plastic, Dual, 2.2 x 2.5 x 0.8mm Body, 6 Lead, 0.65mm Pitch, No Pullback; Supplier 1: Digi-Key; Supplier Part Number 1: LMV227SDX-ND; RoHS: Y; PinCount: 6; ComponentLink1Description: LMV227 Datasheet; ComponentLink1URL: http://www.national.com/ds/LM/LMV227.pdf; ComponentLink2Description: LMV227 Web Page; ComponentLink2URL: http://www.national.com/pf/LM/LMV227.html; ComponentLink3Description: SDB06A Package Page; ComponentLink3URL: http://www.national.com/packaging/folders/sdb06a.html
footprint SDB06A (SON, 6-Leads, Body 2.2x2.5mm, Pitch 0.65mm, NSC Recommended (SC-70 Land))
pins: 1 GND (power), 2 NC, 3 RFIN/EN (in), 4 VDD (power), 5 NC, 6 OUT (out), 7 Thermal Pad (power)

## LMV228SD
designator U?
RF Power Detector for CDMA and WCDMA, 6-pin LLP; PartNumber: LMV228SD; Manufacturer: National Semiconductor; PackageTopMarking: THHD*XTT; PowerWise: N; CompType: OtherParts; Published: 4-Dec-2008; DatasheetVersion: Oct-2006; PackageVersion: revA, Nov-2003; PackageReference: SDB06A; Publisher: Altium Limited; PackageDescription: LLP, Plastic, Dual, 2.2 x 2.5 x 0.8mm Body, 6 Lead, 0.65mm Pitch, No Pullback; RoHS: Y; PinCount: 6; ComponentLink1Description: LMV228 Datasheet; ComponentLink1URL: http://www.national.com/ds/LM/LMV228.pdf; ComponentLink2Description: LMV228 Web Page; ComponentLink2URL: http://www.national.com/pf/LM/LMV228.html; ComponentLink3Description: SDB06A Package Page; ComponentLink3URL: http://www.national.com/packaging/folders/sdb06a.html
footprint SDB06A (SON, 6-Leads, Body 2.2x2.5mm, Pitch 0.65mm, NSC Recommended (SC-70 Land))
pins: 1 GND (power), 2 NC, 3 RFIN/EN (in), 4 VDD (power), 5 NC, 6 OUT (out), 7 Thermal Pad (power)

## LMV228SD/NOPB
designator U?
RF Power Detector for CDMA and WCDMA, 6-pin LLP, Pb-Free; PartNumber: LMV228SD/NOPB; Manufacturer: National Semiconductor; PackageTopMarking: XTT*A89; PowerWise: N; CompType: OtherParts; Published: 1-Mar-2010; DatasheetVersion: Oct-2006; PackageVersion: revA, Nov-2003; PackageReference: SDB06A; Publisher: Altium Limited; PackageDescription: LLP, Plastic, Dual, 2.2 x 2.5 x 0.8mm Body, 6 Lead, 0.65mm Pitch, No Pullback; Supplier 1: Digi-Key; Supplier Part Number 1: LMV228SDTR-ND; Supplier 2: Digi-Key; Supplier Part Number 2: LMV228SDCT-ND; Supplier 3: Digi-Key; Supplier Part Number 3: LMV228SDDKR-ND; RoHS: Y; PinCount: 6; ComponentLink1Description: LMV228 Datasheet; ComponentLink1URL: http://www.national.com/ds/LM/LMV228.pdf; ComponentLink2Description: LMV228 Web Page; ComponentLink2URL: http://www.national.com/pf/LM/LMV228.html; ComponentLink3Description: SDB06A Package Page; ComponentLink3URL: http://www.national.com/packaging/folders/sdb06a.html
footprint SDB06A (SON, 6-Leads, Body 2.2x2.5mm, Pitch 0.65mm, NSC Recommended (SC-70 Land))
pins: 1 GND (power), 2 NC, 3 RFIN/EN (in), 4 VDD (power), 5 NC, 6 OUT (out), 7 Thermal Pad (power)

## LMV228SDX/NOPB
designator U?
RF Power Detector for CDMA and WCDMA, 6-pin LLP, Pb-Free; PartNumber: LMV228SDX/NOPB; Manufacturer: National Semiconductor; PackageTopMarking: XTT*A89; PowerWise: N; CompType: OtherParts; Published: 1-Mar-2010; DatasheetVersion: Oct-2006; PackageVersion: revA, Nov-2003; PackageReference: SDB06A; Publisher: Altium Limited; PackageDescription: LLP, Plastic, Dual, 2.2 x 2.5 x 0.8mm Body, 6 Lead, 0.65mm Pitch, No Pullback; Supplier 1: Digi-Key; Supplier Part Number 1: LMV228SDX-ND; RoHS: Y; PinCount: 6; ComponentLink1Description: LMV228 Datasheet; ComponentLink1URL: http://www.national.com/ds/LM/LMV228.pdf; ComponentLink2Description: LMV228 Web Page; ComponentLink2URL: http://www.national.com/pf/LM/LMV228.html; ComponentLink3Description: SDB06A Package Page; ComponentLink3URL: http://www.national.com/packaging/folders/sdb06a.html
footprint SDB06A (SON, 6-Leads, Body 2.2x2.5mm, Pitch 0.65mm, NSC Recommended (SC-70 Land))
pins: 1 GND (power), 2 NC, 3 RFIN/EN (in), 4 VDD (power), 5 NC, 6 OUT (out), 7 Thermal Pad (power)

## LMV232TL/NOPB
designator U?
Dual-Channel Integrated Mean Square Power Detector for CDMA & WCDMA, 8-pin Micro SMD, Pb-Free; PartNumber: LMV232TL/NOPB; Manufacturer: National Semiconductor; PackageTopMarking: XVA*I 02; PowerWise: Y; CompType: OtherParts; Published: 1-Mar-2010; DatasheetVersion: Apr-2005; PackageVersion: revC, Jan-2004; PackageReference: TLA08AAA; Publisher: Altium Limited; PackageDescription: Thin Micro SMD, 8 Bump (Large), 0.5mm Pitch; Supplier 1: Digi-Key; Supplier Part Number 1: LMV232TLTR-ND; Supplier 2: Digi-Key; Supplier Part Number 2: LMV232TLCT-ND; Supplier 3: Digi-Key; Supplier Part Number 3: LMV232TLDKR-ND; RoHS: Y; PinCount: 8; ComponentLink1Description: LMV232 Datasheet; ComponentLink1URL: http://www.national.com/ds/LM/LMV232.pdf; ComponentLink2Description: LMV232 Web Page; ComponentLink2URL: http://www.national.com/pf/LM/LMV232.html; ComponentLink3Description: TLA08AAA Package Page; ComponentLink3URL: http://www.national.com/packaging/folders/tla08aaa.html
footprint TLA08AAA (Micro SMD, 8-Leads, Body 1.52x1.52mm, Pitch 0.5mm, NSC Recommended)
pins: A1 RF IN 1 (in), A2 FB (in), A3 OUT (out), B1 GND (power), B3 VDD (power), C1 RF IN 2 (in), C2 BS (in), C3 SD (in)

## LMV242LD
designator U?
Dual Output, Quad-Band GSM/GPRS Power Amplifier Controller, 10-pin LLP; PartNumber: LMV242LD; Manufacturer: National Semiconductor; PackageTopMarking: ZXYTT*242LD; PowerWise: Y; CompType: OtherParts; Published: 4-Dec-2008; DatasheetVersion: Jul-2004; PackageVersion: revB, Jan-2003; PackageReference: LDA10A; Publisher: Altium Limited; PackageDescription: LLP, Plastic, Dual, 3 x 3 x 0.75mm Body, 10 Lead, 0.5mm Pitch; Supplier 1: Farnell; Supplier Part Number 1: 8238928; RoHS: N; PinCount: 10; ComponentLink1Description: LMV242 Datasheet; ComponentLink1URL: http://www.national.com/ds/LM/LMV242.pdf; ComponentLink2Description: LMV242 Web Page; ComponentLink2URL: http://www.national.com/pf/LM/LMV242.html; ComponentLink3Description: LDA10A Package Page; ComponentLink3URL: http://www.national.com/packaging/folders/lda10a.html
footprint LDA10A (PSON, 10-Leads, Body 3x3mm, Pitch 0.5mm, NSC Recommended)
pins: 1 OUT 1 (out), 2 OUT 2 (out), 3 COMP 2, 4 VDD (power), 5 RF IN (in), 6 V RAMP (in), 7 TX_EN (in), 8 BS (in), 9 COMP 1, 10 GND (power), 11 DAP (power)

## LMV242LD/NOPB
designator U?
Dual Output, Quad-Band GSM/GPRS Power Amplifier Controller, 10-pin LLP, Pb-Free; PartNumber: LMV242LD/NOPB; Manufacturer: National Semiconductor; PackageTopMarking: ZXYTT*242LD; PowerWise: Y; CompType: OtherParts; Published: 1-Mar-2010; DatasheetVersion: Jul-2004; PackageVersion: revB, Jan-2003; PackageReference: LDA10A; Publisher: Altium Limited; PackageDescription: LLP, Plastic, Dual, 3 x 3 x 0.75mm Body, 10 Lead, 0.5mm Pitch; Supplier 1: Digi-Key; Supplier Part Number 1: LMV242LDTR-ND; Supplier 2: Digi-Key; Supplier Part Number 2: LMV242LDCT-ND; Supplier 3: Digi-Key; Supplier Part Number 3: LMV242LDDKR-ND; RoHS: Y; PinCount: 10; ComponentLink1Description: LMV242 Datasheet; ComponentLink1URL: http://www.national.com/ds/LM/LMV242.pdf; ComponentLink2Description: LMV242 Web Page; ComponentLink2URL: http://www.national.com/pf/LM/LMV242.html; ComponentLink3Description: LDA10A Package Page; ComponentLink3URL: http://www.national.com/packaging/folders/lda10a.html
footprint LDA10A (PSON, 10-Leads, Body 3x3mm, Pitch 0.5mm, NSC Recommended)
pins: 1 OUT 1 (out), 2 OUT 2 (out), 3 COMP 2, 4 VDD (power), 5 RF IN (in), 6 V RAMP (in), 7 TX_EN (in), 8 BS (in), 9 COMP 1, 10 GND (power), 11 DAP (power)

## LMX9830SM
designator U?
Bluetooth Serial Port Module, 60-pin FBGA; PartNumber: LMX9830SM; Manufacturer: National Semiconductor; PackageTopMarking: THHD*XTT; PowerWise: N; CompType: OtherParts; Published: 4-Dec-2008; DatasheetVersion: Sep-2008; PackageVersion: revA, Oct-2003; PackageReference: SLF60A; Publisher: Altium Limited; PackageDescription: FBGA, Plastic, Laminate, 9 x 6 x 1.2mm, 60 Ball, 0.8mm Pitch; RoHS: Y; PinCount: 60; ComponentLink1Description: LMX9830 Datasheet; ComponentLink1URL: http://www.national.com/ds/LM/LMX9830.pdf; ComponentLink2Description: LMX9830 Web Page; ComponentLink2URL: http://www.national.com/pf/LM/LMX9830.html; ComponentLink3Description: SLF60A Package Page; ComponentLink3URL: http://www.national.com/packaging/folders/slf60a.html
footprint SLF60A (BGA, 60-Leads, Body 6x9mm, Pitch 0.8mm)
pins: A1 NC, A2 NC, A3 NC, A4 ~{RDY} (out), A5 TMS (in), A6 XOSCEN (out), A7 PG6 (io), A8 VDD_IF (power), A9 TE (in), A10 VDD_RF (power), B1 ~{RTS} (out), B2 GND (power), B3 RXD (in), B4 TCK (in), B5 TDI (in), B6 ~{B_RESET_RA} (out), B7 ~{RESET_BB} (in), B8 ~{RESET_RA} (in), B9 GND_RF (power), B10 TST1~{/DIV2}, C1 OP6/SCL/MSK (io), C2 ~{CTS} (in), C3 TXD (out), C4 VCC_IO (power), C5 VCC_CORE (power), C6 ~{ENV1} (in), C7 TST2 (in), C8 TST3 (in), C9 TST4 (in), C10 GND_RF (power), D1 MDODI (io), D2 PG7 (io), D3 OP3/~{MWCS} (in), D4 OP7/SDA/MDIDO (io), D5 TDO (out), D6 OP4/PG4 (io), D7 GND_IF (power), D8 TST5 (in), D9 TST6 (in), D10 ANT (io), E1 VCC (power), E2 GND (power), E3 STD (out), E4 VCC_IOP (power), E5 X2_CKO (out), E6 VDD_IOR (power), E7 X1_CKI (in), E8 VDD_X1 (power), E9 GND_VCO (power), E10 GND_RF (power), F1 SCLK (io), F2 SFS (io), F3 SRD (in), F4 OP5 (io), F5 X2_CKI (in), F6 VCC_PLL (power), F7 X1_CKO (out), F8 VCO_OUT (out), F9 VCO_IN (in), F10 VDD_VCO (power)

## LMX9838SB
designator U?
Bluetooth Serial Port Module, 40-pin LTCC; PartNumber: LMX9838SB; Manufacturer: National Semiconductor; PackageTopMarking: NSCE2VZXYYTT*LMX9838SB*FCC ID; PowerWise: N; CompType: OtherParts; Published: 4-Dec-2008; DatasheetVersion: Sep-2007; PackageVersion: Sep-2007; PackageReference: SB70A; Publisher: Altium Limited; PackageDescription: LGA, 10 x 17 x 1.85mm, 70 Pad, 1.0mm Pitch; RoHS: Y; PinCount: 40; ComponentLink1Description: LMX9838 Datasheet; ComponentLink1URL: http://www.national.com/ds/LM/LMX9838.pdf; ComponentLink2Description: LMX9838 Web Page; ComponentLink2URL: http://www.national.com/pf/LM/LMX9838.html
footprint SB70A (Lead Grid Array, 70-Leads (30 Absent), Body 17x10mm, Pitch 1mm, NSC Recommended)
pins: 1 NC, 2 ~{RESET} (in), 3 GND (power), 4 GND (power), 5 NC, 6 MVCC (in), 7 PG6 (io), 8 XOSCEN (out), 9 VCCCORE (power), 10 VCC (power), 11 VCCIO (power), 12 RXD (in), 13 TXD (out), 14 ~{RTS} (out), 15 ~{CTS} (in), 16 OP3 (in), 17 GND (power), 18 GND (power), 19 PG7 (io), 20 SCLK (io), 21 SFS (io), 22 STD (out), 23 SRD (in), 24 GND (power), 25 OP5 (io), 26 OP4/PG4 (io), 27 32K+ (in), 28 32K- (out), 29 GND (power), 30 GND (power), 31 GND (power), 32 GND (power), 33 NC, 34 NC, 35 NC, 36 NC, 37 NC, 38 NC, 39 NC, 40 NC

## LMX9838SB/NOPB
designator U?
Bluetooth Serial Port Module, 70-pin LTCC, Pb-Free; PartNumber: LMX9838SB/NOPB; Manufacturer: National Semiconductor; PackageTopMarking: NSCE2VZXYYTT*LMX9838SB*FCC ID; PowerWise: N; CompType: OtherParts; Published: 1-Mar-2010; DatasheetVersion: Sep-2007; PackageVersion: Sep-2007; PackageReference: SB70A; Publisher: Altium Limited; PackageDescription: LGA, 10 x 17 x 1.85mm, 70 Pad, 1.0mm Pitch; Supplier 1: Digi-Key; Supplier Part Number 1: LMX9838SB-ND; Supplier 2: Farnell; Supplier Part Number 2: 1532815; RoHS: Y; PinCount: 70; ComponentLink1Description: LMX9838 Datasheet; ComponentLink1URL: http://www.national.com/ds/LM/LMX9838.pdf; ComponentLink2Description: LMX9838 Web Page; ComponentLink2URL: http://www.national.com/pf/LM/LMX9838.html; ComponentLink3Description: SB70A Package Page; ComponentLink3URL: http://www.national.com/packaging/folders/sb70a.html
footprint SB70A (Lead Grid Array, 70-Leads (30 Absent), Body 17x10mm, Pitch 1mm, NSC Recommended)
pins: 1 NC, 2 ~{RESET} (in), 3 GND (power), 4 GND (power), 5 NC, 6 MVCC (in), 7 PG6 (io), 8 XOSCEN (out), 9 VCCCORE (power), 10 VCC (power), 11 VCCIO (power), 12 RXD (in), 13 TXD (out), 14 ~{RTS} (out), 15 ~{CTS} (in), 16 OP3 (in), 17 GND (power), 18 GND (power), 19 PG7 (io), 20 SCLK (io), 21 SFS (io), 22 STD (out), 23 SRD (in), 24 GND (power), 25 OP5 (io), 26 OP4/PG4 (io), 27 32K+ (in), 28 32K- (out), 29 GND (power), 30 GND (power), 31 GND (power), 32 GND (power), 33 NC, 34 NC, 35 NC, 36 NC, 37 NC, 38 NC, 39 NC, 40 NC